# Altium footprint library user.PcbLib: 15 footprints
Each footprint in its own frame and in the unit in brackets; x right, y up, seen from the top. Pads: shape width x height; smd on the part's side, far side on the other; paste and mask are expansions set on the pad; w line width, h text height; cw(c..) or ccw(c..) is an arc to the next point about the centre after c.
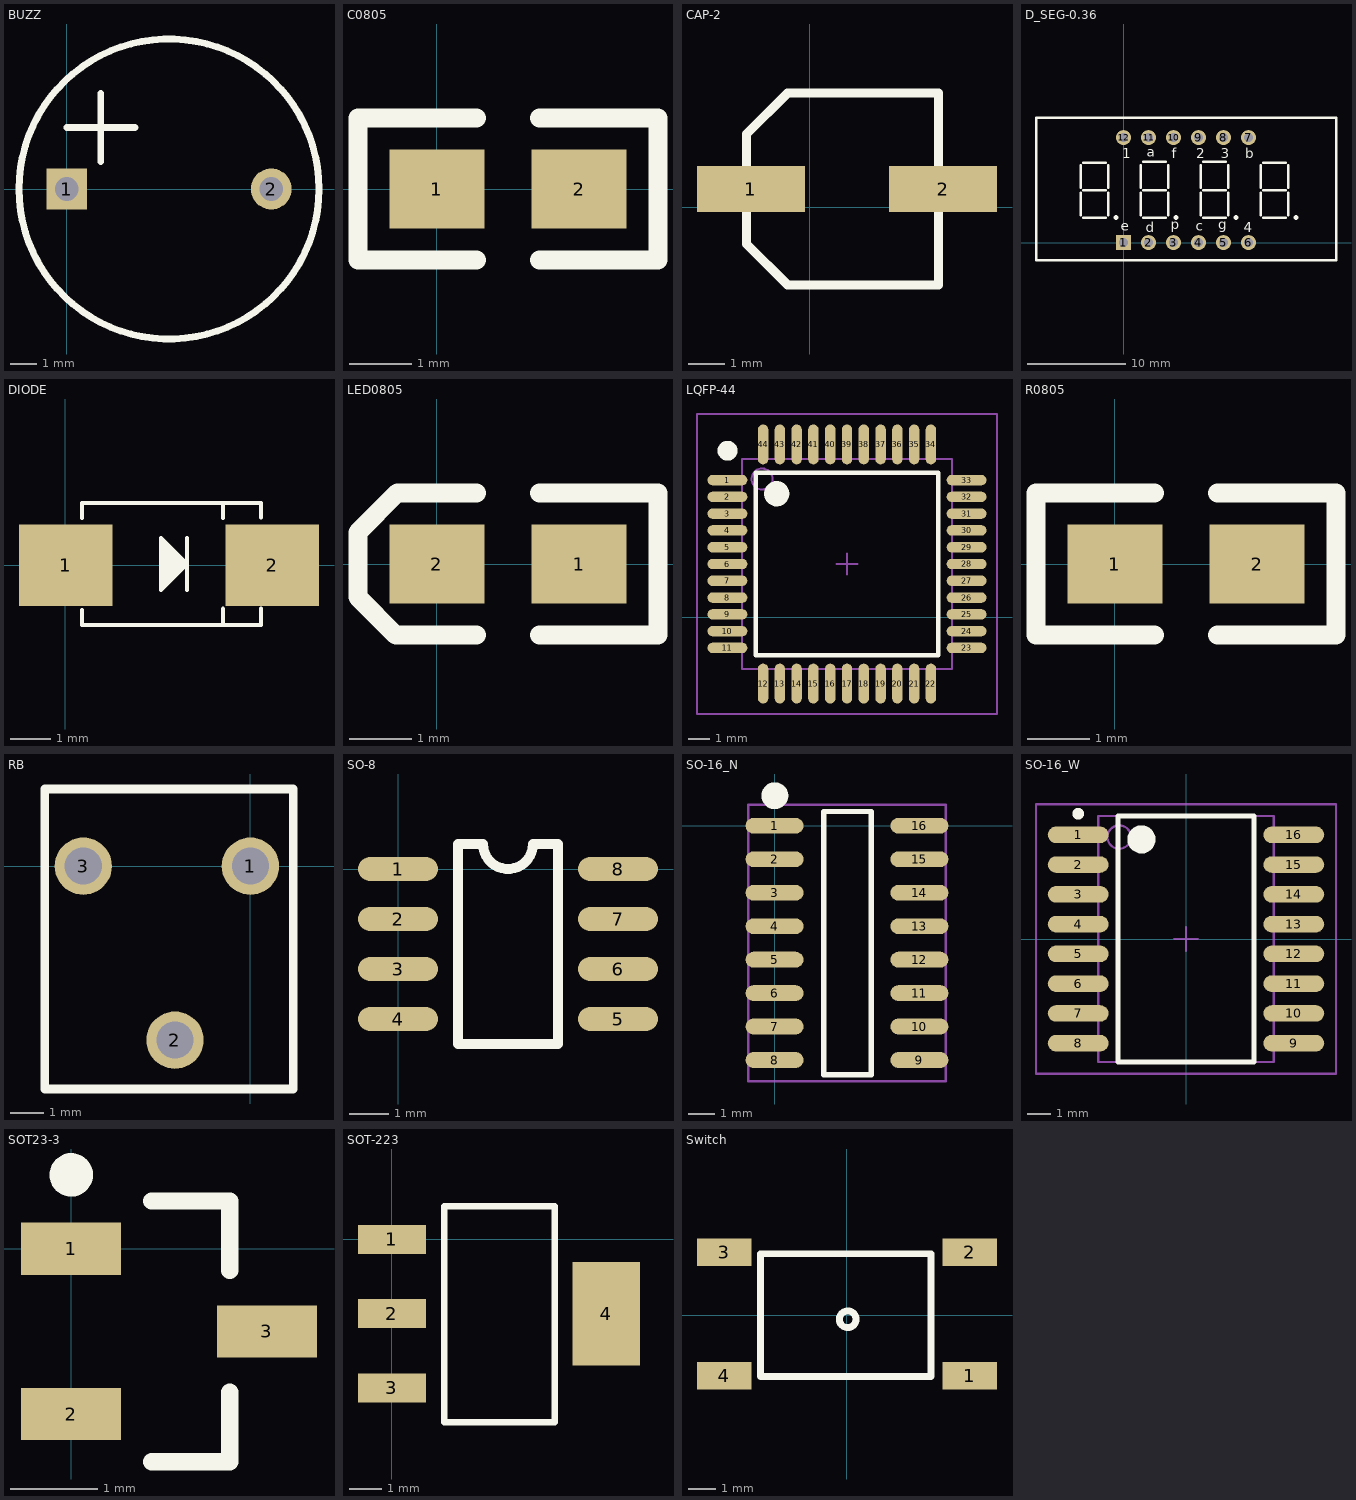
[diagram p0: the footprints below, top view; thin cyan lines are the x and y axes]

## BUZZ [mil]
pads (2):
  rect 60x60 hole 35: 1(0,0)
  round 60 hole 35: 2(300,0)
Top Overlay:
  circle w10: c150,0 r220
  lines w10: 0,90 100,90 ; 50,40 50,140

## C0805 [mil] "电容"
height 39.37
pads (2):
  rect 60x50 smd: 1(0,0) 2(90,0)
Top Overlay:
  lines w12: 25,-45 -50,-45 -50,45 25,45 ; 65,-45 140,-45 140,45 65,45

## CAP-2 [mm] "电解电容"
pads (2):
  rect 3x1.274 smd: 1(-1.635,0.502) 2(3.699,0.502)
Top Overlay:
  lines w0.254: -1.762,-1.022 -1.762,2.026 -0.619,3.169 3.572,3.169 3.572,-2.165 -0.619,-2.165 -1.762,-1.022

## D_SEG-0.36 [mil] "4位数码管"
pads (12):
  rect 60x60 hole 35: 1(0,0)
  round 60 hole 35: 2(100,0) 3(200,0) 4(300,0) 5(400,0) 6(500,0) 7(500,420) 8(400,420) 9(300,420) 10(200,420) 11(100,420) 12(0,420)
Top Overlay:
  lines w10: -171,110 -171,200 ; -171,220 -171,310 ; -161,100 -71,100 ; -161,210 -71,210 ; -161,320 -71,320 ; -61,110 -61,200 ; -61,220 -61,310 ; 69,110 69,200 ; 69,220 69,310 ; 79,100 169,100 ; 79,210 169,210 ; 79.86,323.14 169.86,323.14 ; 179,110 179,200 ; 179,220 179,310 ; 309,110 309,200 ; 309,220 309,310 ; 319,100 409,100 ; 319,210 409,210 ; 319.86,323.14 409.86,323.14 ; 419,110 419,200 ; 419,220 419,310 ; 549,110 549,200 ; 549,220 549,310 ; 559,100 649,100 ; 559,210 649,210 ; 559,320 649,320 ; 659,110 659,200 ; 659,220 659,310 ; -350,-71.17 -350,500 850,500 850,-71.17 -350,-71.17
  lines w20: -31,100 -30,100 ; 209,100 210,100 ; 449,100 450,100 ; 689,100 690,100
  text "1" at -4.88,336.67 h40
  text "a" at 93.69,343.33 h40
  text "f" at 192.26,336.67 h40
  text "2" at 290.83,336.67 h40
  text "3" at 389.41,336.67 h40
  text "b" at 487.98,336.67 h40
  text "e" at -10.66,47.38 h40
  text "d" at 89.34,40.72 h40
  text "p" at 189.34,54.05 h40
  text "c" at 289.34,47.38 h40
  text "g" at 379.34,54.05 h40
  text "4" at 481,40.72 h40

## DIODE [mm] "二极管"
pads (2):
  rect 2.3x2 smd: 1(0.01,0) 2(5.08,0)
Top Overlay:
  lines w0.1: 0.407,-1.103 0.407,-1.47 4.807,-1.47 4.807,-1.064 ; 0.407,1.162 0.407,1.53 4.807,1.53 4.807,1.167 ; 2.423,0.594 2.423,-0.447 2.511,-0.447 2.511,0.507 ; 2.536,-0.021 2.988,-0.021 ; 2.558,-0.4 2.558,0.46 ; 2.618,-0.34 2.618,0.399 ; 2.693,-0.265 2.693,0.324 ; 2.693,0.055 2.988,0.055 ; 2.775,-0.183 2.775,0.242 ; 2.799,-0.159 2.799,0.218 ; 2.988,-0.605 2.988,0.665 ; 3.877,-1.47 3.877,-1.07 ; 3.877,1.158 3.877,1.53 ; 2.353,-0.605 2.988,0.03 2.353,0.665 2.353,-0.605

## LED0805 [mil] "LED"
pads (2):
  rect 60x50 smd: 1(90,0) 2(0,0)
Top Overlay:
  lines w12: 25,-45 -26,-45 -50,-21 -50,20 -25,45 25,45 ; 65,-45 140,-45 140,45 65,45

## LQFP-44 [mm] "IAP15F2K61S2\STC12C5A60S2\STC15F2K60S2-QFP封装"
pads (44):
  oval 1.9x0.5 smd: 1(2.301,6.54) 2(2.301,5.74) 3(2.301,4.94) 4(2.301,4.14) 5(2.301,3.34) 6(2.301,2.54) 7(2.301,1.74) 8(2.301,0.94) 9(2.301,0.14) 10(2.301,-0.66) 11(2.301,-1.46) 23(13.701,-1.46) 24(13.701,-0.66) 25(13.701,0.14) 26(13.701,0.94) 27(13.701,1.74) 28(13.701,2.54) 29(13.701,3.34) 30(13.701,4.14) 31(13.701,4.94) 32(13.701,5.74) 33(13.701,6.54)
  oval 0.5x1.9 smd: 12(4.001,-3.16) 13(4.801,-3.16) 14(5.601,-3.16) 15(6.401,-3.16) 16(7.201,-3.16) 17(8.001,-3.16) 18(8.801,-3.16) 19(9.601,-3.16) 20(10.401,-3.16) 21(11.201,-3.16) 22(12.001,-3.16) 34(12.001,8.24) 35(11.201,8.24) 36(10.401,8.24) 37(9.601,8.24) 38(8.801,8.24) 39(8.001,8.24) 40(7.201,8.24) 41(6.401,8.24) 42(5.601,8.24) 43(4.801,8.24) 44(4.001,8.24)
Top Overlay:
  circle w0.5: c2.301,7.94 r0.224
  circle w0.6: c4.651,5.89 r0.3
  lines w0.2: 3.651,-1.81 12.351,-1.81 12.351,6.89 3.651,6.89 3.651,-1.81
Mechanical 13:
  circle w0.1: c3.951,6.59 r0.5
  lines w0.1: 3.001,-2.46 13.001,-2.46 13.001,7.54 3.001,7.54 3.001,-2.46
Mechanical 15:
  lines w0.1: 7.501,2.54 8.501,2.54 ; 8.001,2.04 8.001,3.04 ; 0.851,-4.61 15.151,-4.61 15.151,9.69 0.851,9.69 0.851,-4.61

## R0805 [mil] "电阻"
height 39.37
pads (2):
  rect 60x50 smd: 1(0,0) 2(90,0)
Top Overlay:
  lines w12: 25,-45 -50,-45 -50,45 25,45 ; 65,-45 140,-45 140,45 65,45

## RB [mm] "电位器"
pads (3):
  round 1.7 hole 1.1: 1(0,0) 2(-2.235,-5.156) 3(-4.953,0)
Top Overlay:
  lines w0.254: -6.096,-6.604 -6.096,2.286 1.27,2.286 1.27,-6.604 -6.096,-6.604

## SO-8 [mil]
pads (8):
  oval 80x24 smd: 1(0,0) 2(0,-50) 3(0,-100) 4(0,-150) 5(220,-150) 6(220,-100) 7(220,-50) 8(220,0)
Top Overlay:
  lines w10: 60,-175 60,25 85,25 ccw(c110,25) 135,25 160,25 160,-175 60,-175

## SO-16_N [mm] "16-Pin Small Outline Integrated Circuit 1.27 mm Pitch, IPC Medium Density-SOP型封装"
height 1.75
pads (16):
  oval 2.2x0.6 smd: 1(0,0) 2(0,-1.27) 3(0,-2.54) 4(0,-3.81) 5(0,-5.08) 6(0,-6.35) 7(0,-7.62) 8(0,-8.89) 9(5.5,-8.89) 10(5.5,-7.62) 11(5.5,-6.35) 12(5.5,-5.08) 13(5.5,-3.81) 14(5.5,-2.54) 15(5.5,-1.27) 16(5.5,0)
Top Overlay:
  circle w0.508: c0.012,1.143 r0.254
  lines w0.2: 1.868,-9.454 1.868,0.546 3.668,0.546 3.668,-9.454 1.868,-9.454
Mechanical 15:
  lines w0.1: -1.002,-9.695 -1.002,0.804 6.498,0.804 6.498,-9.695 -1.002,-9.695

## SO-16_W [mm] "SOIC, 16-Leads, Body 10.3x7.5mm, Pitch 1.27mm, IPC Low Density"
height 2.65
pads (16):
  oval 2.6x0.7 smd: 1(-4.6,4.445) 2(-4.6,3.175) 3(-4.6,1.905) 4(-4.6,0.635) 5(-4.6,-0.635) 6(-4.6,-1.905) 7(-4.6,-3.175) 8(-4.6,-4.445) 9(4.6,-4.445) 10(4.6,-3.175) 11(4.6,-1.905) 12(4.6,-0.635) 13(4.6,0.635) 14(4.6,1.905) 15(4.6,3.175) 16(4.6,4.445)
Top Overlay:
  circle w0.25: c-4.6,5.345 r0.125
  circle w0.6: c-1.9,4.25 r0.3
  lines w0.2: -2.9,-5.25 -2.9,5.25 2.9,5.25 2.9,-5.25 -2.9,-5.25
Mechanical 13:
  circle w0.1: c-2.85,4.35 r0.5
  lines w0.1: -3.75,-5.25 -3.75,5.25 3.75,5.25 3.75,-5.25 -3.75,-5.25
Mechanical 15:
  lines w0.1: -0.5,0 0.5,0 ; 0,-0.5 0,0.5 ; -6.4,-5.75 -6.4,5.75 6.4,5.75 6.4,-5.75 -6.4,-5.75

## SOT23-3 [mm] "NPN(S9013):1B2E3C-SOP型封装"
pads (3):
  rect 1.15x0.6 smd: 1(0,0) 2(0,-1.9) 3(2.25,-0.95)
Top Overlay:
  circle w0.25: c0,0.85 r0.125
  lines w0.2: 0.925,-2.45 1.825,-2.45 1.825,-1.65 ; 0.925,0.55 1.825,0.55 1.825,-0.25

## SOT-223 [mm] "SOP型封装"
pads (4):
  rect 2.1x0.9 smd: 1(0,0) 2(0,-2.3) 3(0,-4.6)
  rect 2.1x3.2 smd: 4(6.644,-2.3)
Top Overlay:
  lines w0.2: 1.62,-5.67 5.052,-5.67 5.052,1.03 1.62,1.03 1.62,-5.67

## Switch [mm]
pads (4):
  rect 2x1 smd: 1(4.504,-2.208) 2(4.504,2.313) 3(-4.496,2.313) 4(-4.496,-2.208)
Top Overlay:
  circle w0.254: c0.03,-0.141 r0.307
  lines w0.254: -3.173,-2.239 -3.173,2.261 3.076,2.261 3.076,-2.239 -3.173,-2.239